# Altium schematic symbol library DIODE.SchLib: 10 symbols
Pins are listed as number, name and electrical type; pins without a type are passive.

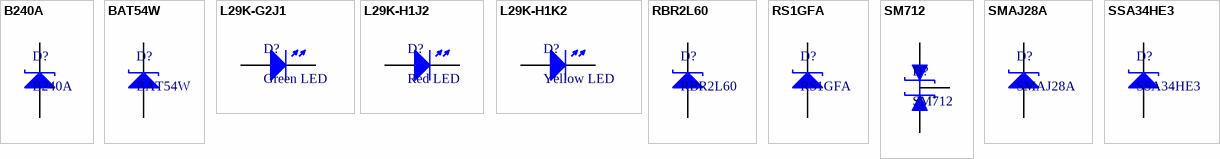
[diagram p0: symbols B240A to SSA34HE3]

## B240A
designator D?
Schottky Diodes & Rectifiers 2A,40V,SM SCHOTTKY RECT; Manufacturer: Vishay; Part Number: B240A-M3/61T; Distributor: Mouser; Distributor ID: 78-B240A-M361T
footprint DO-214AC
pins: 1 A, 2 K

## BAT54W
designator D?
Schottky Diodes & Rectifiers 30V Zener SKY DIODE SOD-123; Manufacturer: Vishay; Part Number: BAT54W-HG3-18; Distributor: Mouser; Distributor ID: 78-BAT54W-HG3-18
footprint SOD-123
pins: 1 A, 2 K

## L29K-G2J1
designator D?, comment Green LED
Standard LEDs - SMD Green, 570nm 12mcd, 2mA; Manufacturer: Osram; Part Number: LG L29K-G2J1-24-Z; Distributor: Mouser; Distributor ID: 720-LGL29KG2J124Z
footprint D_0603N (Diode, 2-Leads, Body 1.60x0.80mm, IPC High Density)
pins: 1 A, 2 K

## L29K-H1J2
designator D?, comment Red LED
Standard LEDs - SMD Super Red, 630nm 2.8 to 7.1 mcd; Manufacturer: Osram; Part Number: LS L29K-H1J2-1-Z; Distributor: Mouser; Distributor ID: 720-LSL29K-H1J2-1-Z
footprint D_0603N (Diode, 2-Leads, Body 1.60x0.80mm, IPC High Density)
pins: 1 A, 2 K

## L29K-H1K2
designator D?, comment Yellow LED
Standard LEDs - SMD Yellow, 587nm 28mcd, 2mA; Manufacturer: Osram; Part Number: LY L29K-H1K2-26-Z; Distributor: Mouser; Distributor ID: 720-LYL29KH1K226Z
footprint D_0603N (Diode, 2-Leads, Body 1.60x0.80mm, IPC High Density)
pins: 1 A, 2 K

## RBR2L60
designator D?
Schottky Diodes & Rectifiers SCHOTTKY BARRIER DIODE; Manufacturer: ROHM Semiconductor; Part Number: RBR2L60ADDTE25; Distributor: Mouser; Distributor ID: 755-RBR2L60ADDTE25
footprint DO-214AC
pins: 1 A, 2 K

## RS1GFA
designator D?
Rectifiers 400V 0.8A Fast Rectifier; Manufacturer: On Semiconductor; Distributor: Mouser; Distributor ID: 512-RS1GFA; Part Number: RS1GFA
footprint SOD-123FA
pins: 1 A, 2 K

## SM712
designator D?
ESD Suppressors / TVS Diodes SOT-23 7V400W Low Capacitance; Manufacturer: Bourns; Part Number: CDSOT23-SM712; Distributor: Mouser; Distributor ID: 652-CDSOT23-SM712
footprint SOT-23_N (SOT23, 3-Leads, Body 2.9x1.3mm, Pitch 0.95mm, Lead Span 2.3mm, IPC Medium Density)
pins: 1 K, 2 A, 3 C

## SMAJ28A
designator D?
ESD Suppressors / TVS Diodes 28volts 5uA 8.8 Amps Uni-Dir; Manufacturer: Bourns; Distributor: Mouser; Distributor ID: 652-SMAJ28A; Part Number: SMAJ28A
footprint DO-214AC
pins: 1 A, 2 K

## SSA34HE3
designator D?
Schottky Diodes & Rectifiers 40 Volt 3.0 Amp 75 AMP IFSM; Manufacturer: Vishay; Distributor: Mouser; Distributor ID: 78-SSA34HE3_A/I; Part Number: SSA34HE3
footprint DO-214AC
pins: 1 A, 2 K